# Altium integrated library National Semiconductor Amplifier.IntLib: 1665 symbols (part 14 of 44)
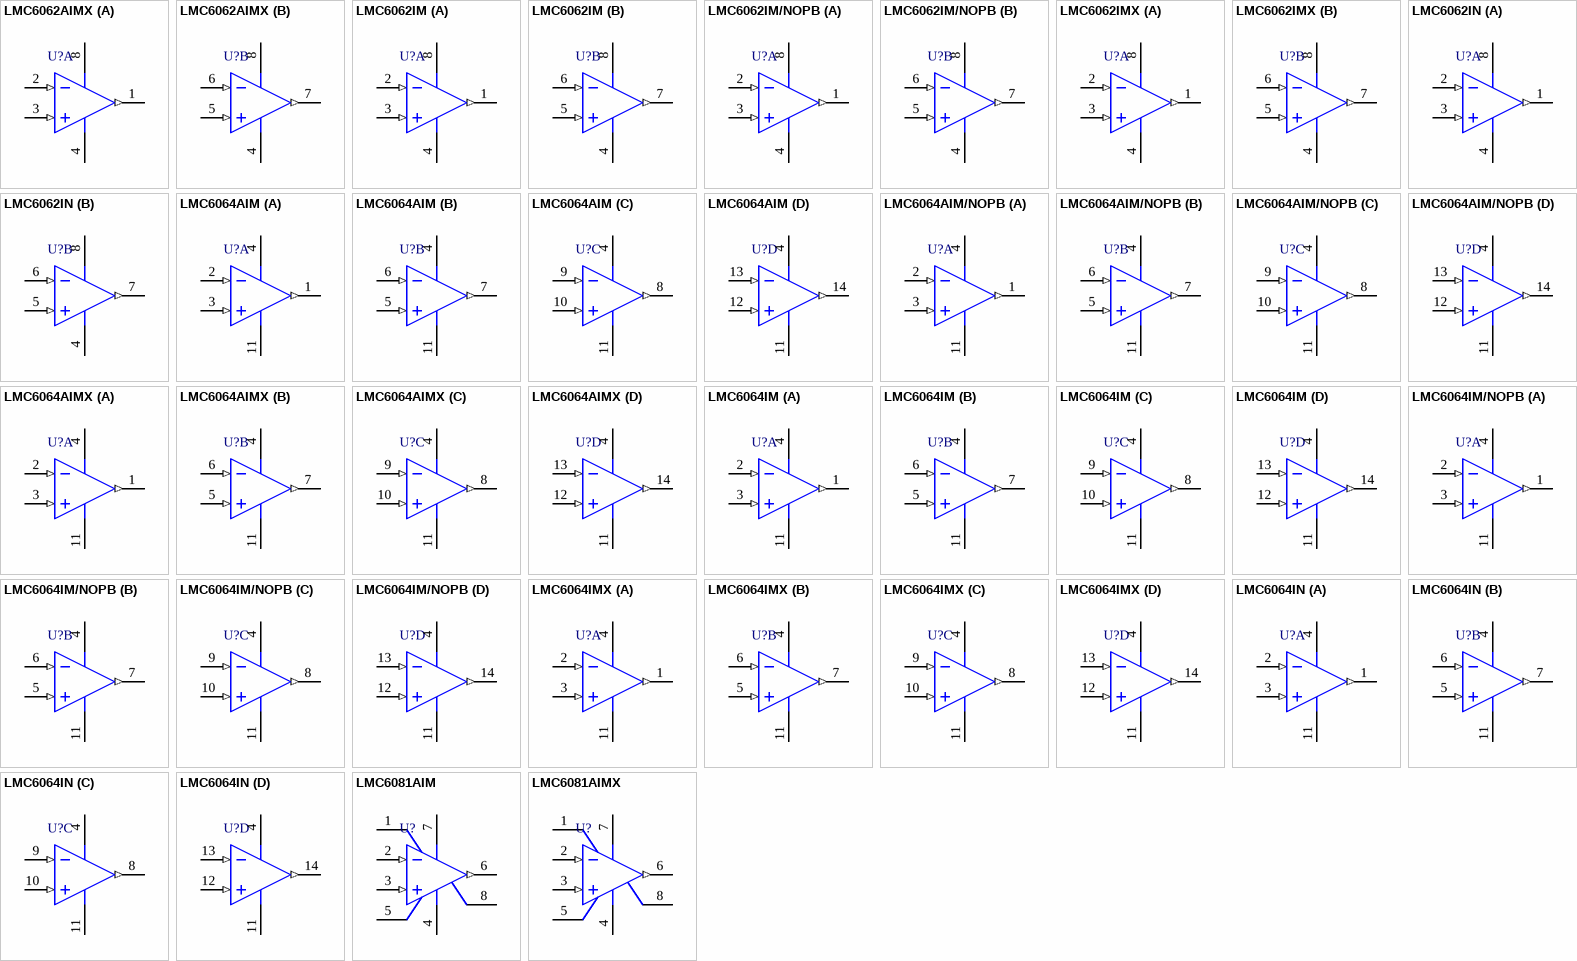
[diagram p97: symbols LMC6062AIMX to LMC6081AIMX]

## LMC6064IM
designator U?
Precision CMOS Quad Micropower Operational Amplifier, 14-pin Narrow SOIC; PartNumber: LMC6064IM; Manufacturer: National Semiconductor; PackageTopMarking: NSUZXYTTE#*LMC6064IM; PowerWise: N; CompType: Amplifiers; High-Reliability: Y; DatasheetVersion: Apr-2001; PackageVersion: revJ, Jan-1996; PackageReference: M14A; PackageDescription: Molded Package S.O., .150in Wide, 14 Lead; RoHS: N; PinCount: 14; Code_JEDEC: MS-012AB; Code_IPC: SOIC127P600-14; ComponentLink1Description: Manufacturer URL; ComponentLink1URL: http://www.national.com/; ComponentLink2Description: LMC6064 Datasheet; ComponentLink2URL: http://www.national.com/ds/LM/LMC6064.pdf; ComponentLink3Description: LMC6064 Web Page; ComponentLink3URL: http://www.national.com/pf/LM/LMC6064.html; ComponentLink4Description: M14A Package Page; ComponentLink4URL: http://www.national.com/packaging/folders/m14a.html
footprint M14A_N (SOIC, 14-Leads, Body 8.6x3.9mm, Pitch 1.27mm, IPC Medium Density)
footprint M14A_L (SOIC, 14-Leads, Body 8.6x3.9mm, Pitch 1.27mm, IPC High Density)
footprint M14A_M (SOIC, 14-Leads, Body 8.6x3.9mm, Pitch 1.27mm, IPC Low Density)
pins on every part: 4 V+ (power), 11 V- (power)
part A pins: 1 OUT1 (out), 2 IN1- (in), 3 IN1+ (in)
part B pins: 5 IN2+ (in), 6 IN2- (in), 7 OUT2 (out)
part C pins: 8 OUT3 (out), 9 IN3- (in), 10 IN3+ (in)
part D pins: 12 IN4+ (in), 13 IN4- (in), 14 OUT4 (out)

## LMC6064IM/NOPB
designator U?
Precision CMOS Quad Micropower Operational Amplifier, 14-pin Narrow SOIC, Pb-Free; PartNumber: LMC6064IM/NOPB; Manufacturer: National Semiconductor; PackageTopMarking: NSUZXYTTE#*LMC6064IM; PowerWise: N; CompType: Amplifiers; High-Reliability: Y; DatasheetVersion: Apr-2001; PackageVersion: revJ, Jan-1996; PackageReference: M14A; PackageDescription: Molded Package S.O., .150in Wide, 14 Lead; RoHS: Y; PinCount: 14; Code_JEDEC: MS-012AB; Code_IPC: SOIC127P600-14; ComponentLink1Description: Manufacturer URL; ComponentLink1URL: http://www.national.com/; ComponentLink2Description: LMC6064 Datasheet; ComponentLink2URL: http://www.national.com/ds/LM/LMC6064.pdf; ComponentLink3Description: LMC6064 Web Page; ComponentLink3URL: http://www.national.com/pf/LM/LMC6064.html; ComponentLink4Description: M14A Package Page; ComponentLink4URL: http://www.national.com/packaging/folders/m14a.html
footprint M14A_N (SOIC, 14-Leads, Body 8.6x3.9mm, Pitch 1.27mm, IPC Medium Density)
footprint M14A_L (SOIC, 14-Leads, Body 8.6x3.9mm, Pitch 1.27mm, IPC High Density)
footprint M14A_M (SOIC, 14-Leads, Body 8.6x3.9mm, Pitch 1.27mm, IPC Low Density)
pins on every part: 4 V+ (power), 11 V- (power)
part A pins: 1 OUT1 (out), 2 IN1- (in), 3 IN1+ (in)
part B pins: 5 IN2+ (in), 6 IN2- (in), 7 OUT2 (out)
part C pins: 8 OUT3 (out), 9 IN3- (in), 10 IN3+ (in)
part D pins: 12 IN4+ (in), 13 IN4- (in), 14 OUT4 (out)

## LMC6064IMX
designator U?
Precision CMOS Quad Micropower Operational Amplifier, 14-pin Narrow SOIC; PartNumber: LMC6064IMX; Manufacturer: National Semiconductor; PackageTopMarking: NSUZXYTTE#*LMC6064IM; PowerWise: N; CompType: Amplifiers; High-Reliability: Y; DatasheetVersion: Apr-2001; PackageVersion: revJ, Jan-1996; PackageReference: M14A; PackageDescription: Molded Package S.O., .150in Wide, 14 Lead; RoHS: N; PinCount: 14; Code_JEDEC: MS-012AB; Code_IPC: SOIC127P600-14; ComponentLink1Description: Manufacturer URL; ComponentLink1URL: http://www.national.com/; ComponentLink2Description: LMC6064 Datasheet; ComponentLink2URL: http://www.national.com/ds/LM/LMC6064.pdf; ComponentLink3Description: LMC6064 Web Page; ComponentLink3URL: http://www.national.com/pf/LM/LMC6064.html; ComponentLink4Description: M14A Package Page; ComponentLink4URL: http://www.national.com/packaging/folders/m14a.html
footprint M14A_N (SOIC, 14-Leads, Body 8.6x3.9mm, Pitch 1.27mm, IPC Medium Density)
footprint M14A_L (SOIC, 14-Leads, Body 8.6x3.9mm, Pitch 1.27mm, IPC High Density)
footprint M14A_M (SOIC, 14-Leads, Body 8.6x3.9mm, Pitch 1.27mm, IPC Low Density)
pins on every part: 4 V+ (power), 11 V- (power)
part A pins: 1 OUT1 (out), 2 IN1- (in), 3 IN1+ (in)
part B pins: 5 IN2+ (in), 6 IN2- (in), 7 OUT2 (out)
part C pins: 8 OUT3 (out), 9 IN3- (in), 10 IN3+ (in)
part D pins: 12 IN4+ (in), 13 IN4- (in), 14 OUT4 (out)

## LMC6064IN
designator U?
Precision CMOS Quad Micropower Operational Amplifier, 14-pin MDIP; PartNumber: LMC6064IN; Manufacturer: National Semiconductor; PackageTopMarking: NSUZXYYTTE#*LMC6064IN; PowerWise: N; CompType: Amplifiers; High-Reliability: Y; DatasheetVersion: Apr-2001; PackageVersion: revG, May-2006; PackageReference: N14A; PackageDescription: MDIP, .750 x .250 x.130in, 14 Lead, .100in Pitch; RoHS: N; PinCount: 14; Code_JEDEC: MS-001-AA; ComponentLink1Description: Manufacturer URL; ComponentLink1URL: http://www.national.com/; ComponentLink2Description: LMC6064 Datasheet; ComponentLink2URL: http://www.national.com/ds/LM/LMC6064.pdf; ComponentLink3Description: LMC6064 Web Page; ComponentLink3URL: http://www.national.com/pf/LM/LMC6064.html; ComponentLink4Description: N14A Package Page; ComponentLink4URL: http://www.national.com/packaging/folders/n14a.html
footprint N14A (DIP, 14-Leads, Row Spacing 7.62mm, Pitch 2.54mm, Body 19.56x6.35mm)
pins on every part: 4 V+ (power), 11 V- (power)
part A pins: 1 OUT1 (out), 2 IN1- (in), 3 IN1+ (in)
part B pins: 5 IN2+ (in), 6 IN2- (in), 7 OUT2 (out)
part C pins: 8 OUT3 (out), 9 IN3- (in), 10 IN3+ (in)
part D pins: 12 IN4+ (in), 13 IN4- (in), 14 OUT4 (out)

## LMC6081AIM
designator U?
Precision CMOS Single Operational Amplifier, 8-pin Narrow SOIC; PartNumber: LMC6081AIM; Manufacturer: National Semiconductor; PackageTopMarking: NSZXTT*LMC60*81AIM; PowerWise: N; CompType: Amplifiers; High-Reliability: Y; DatasheetVersion: Aug-2000; PackageVersion: revM, May-2009; PackageReference: M08A; PackageDescription: SOIC Narrow, 4.9 x 3.9 x 1.45mm, 8 Lead, 1.27mm Pitch; RoHS: N; PinCount: 8; Code_JEDEC: MS-012-AA; Code_IPC: SOIC127P600-8; ComponentLink1Description: Manufacturer URL; ComponentLink1URL: http://www.national.com/; ComponentLink2Description: LMC6081 Datasheet; ComponentLink2URL: http://www.national.com/ds/LM/LMC6081.pdf; ComponentLink3Description: LMC6081 Web Page; ComponentLink3URL: http://www.national.com/pf/LM/LMC6081.html; ComponentLink4Description: M08A Package Page; ComponentLink4URL: http://www.national.com/packaging/folders/m08a.html
footprint M08A_N (SOIC, 8-Leads, Body 4.9x3.9mm, Pitch 1.27mm, IPC Medium Density)
footprint M08A_L (SOIC, 8-Leads, Body 4.9x3.9mm, Pitch 1.27mm, IPC High Density)
footprint M08A_M (SOIC, 8-Leads, Body 4.9x3.9mm, Pitch 1.27mm, IPC Low Density)
pins: 1 NC, 2 IN- (in), 3 IN+ (in), 4 V- (power), 5 NC, 6 OUT (out), 7 V+ (power), 8 NC

## LMC6081AIMX
designator U?
Precision CMOS Single Operational Amplifier, 8-pin Narrow SOIC; PartNumber: LMC6081AIMX; Manufacturer: National Semiconductor; PackageTopMarking: NSZXTT*LMC60*81AIM; PowerWise: N; CompType: Amplifiers; High-Reliability: Y; DatasheetVersion: Aug-2000; PackageVersion: revM, May-2009; PackageReference: M08A; PackageDescription: SOIC Narrow, 4.9 x 3.9 x 1.45mm, 8 Lead, 1.27mm Pitch; RoHS: N; PinCount: 8; Code_JEDEC: MS-012-AA; Code_IPC: SOIC127P600-8; ComponentLink1Description: Manufacturer URL; ComponentLink1URL: http://www.national.com/; ComponentLink2Description: LMC6081 Datasheet; ComponentLink2URL: http://www.national.com/ds/LM/LMC6081.pdf; ComponentLink3Description: LMC6081 Web Page; ComponentLink3URL: http://www.national.com/pf/LM/LMC6081.html; ComponentLink4Description: M08A Package Page; ComponentLink4URL: http://www.national.com/packaging/folders/m08a.html
footprint M08A_N (SOIC, 8-Leads, Body 4.9x3.9mm, Pitch 1.27mm, IPC Medium Density)
footprint M08A_L (SOIC, 8-Leads, Body 4.9x3.9mm, Pitch 1.27mm, IPC High Density)
footprint M08A_M (SOIC, 8-Leads, Body 4.9x3.9mm, Pitch 1.27mm, IPC Low Density)
pins: 1 NC, 2 IN- (in), 3 IN+ (in), 4 V- (power), 5 NC, 6 OUT (out), 7 V+ (power), 8 NC

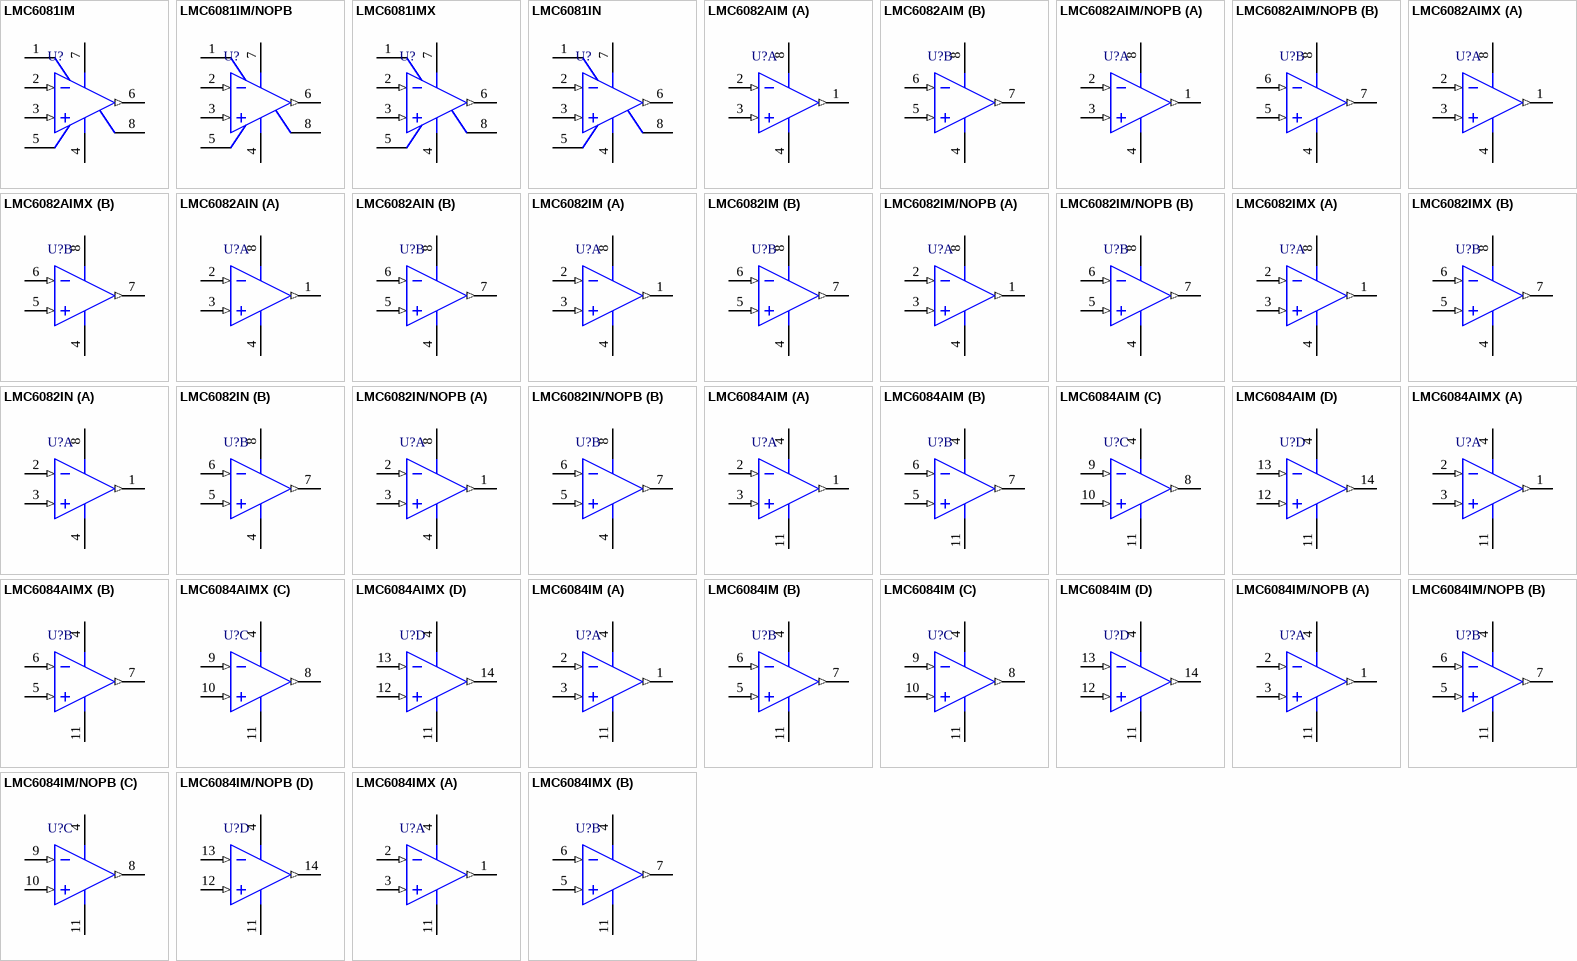
[diagram p31: symbols LMC6081IM to LMC6084IMX]

## LMC6081IM
designator U?
Precision CMOS Single Operational Amplifier, 8-pin Narrow SOIC; PartNumber: LMC6081IM; Manufacturer: National Semiconductor; PackageTopMarking: NSZXTT*LMC60*81IM; PowerWise: N; CompType: Amplifiers; High-Reliability: Y; DatasheetVersion: Aug-2000; PackageVersion: revM, May-2009; PackageReference: M08A; PackageDescription: SOIC Narrow, 4.9 x 3.9 x 1.45mm, 8 Lead, 1.27mm Pitch; RoHS: N; PinCount: 8; Code_JEDEC: MS-012-AA; Code_IPC: SOIC127P600-8; ComponentLink1Description: Manufacturer URL; ComponentLink1URL: http://www.national.com/; ComponentLink2Description: LMC6081 Datasheet; ComponentLink2URL: http://www.national.com/ds/LM/LMC6081.pdf; ComponentLink3Description: LMC6081 Web Page; ComponentLink3URL: http://www.national.com/pf/LM/LMC6081.html; ComponentLink4Description: M08A Package Page; ComponentLink4URL: http://www.national.com/packaging/folders/m08a.html
footprint M08A_N (SOIC, 8-Leads, Body 4.9x3.9mm, Pitch 1.27mm, IPC Medium Density)
footprint M08A_L (SOIC, 8-Leads, Body 4.9x3.9mm, Pitch 1.27mm, IPC High Density)
footprint M08A_M (SOIC, 8-Leads, Body 4.9x3.9mm, Pitch 1.27mm, IPC Low Density)
pins: 1 NC, 2 IN- (in), 3 IN+ (in), 4 V- (power), 5 NC, 6 OUT (out), 7 V+ (power), 8 NC

## LMC6081IM/NOPB
designator U?
Precision CMOS Single Operational Amplifier, 8-pin Narrow SOIC, Pb-Free; PartNumber: LMC6081IM/NOPB; Manufacturer: National Semiconductor; PackageTopMarking: NSZXTT*LMC60*81IM; PowerWise: N; CompType: Amplifiers; High-Reliability: Y; DatasheetVersion: Aug-2000; PackageVersion: revM, May-2009; PackageReference: M08A; PackageDescription: SOIC Narrow, 4.9 x 3.9 x 1.45mm, 8 Lead, 1.27mm Pitch; RoHS: Y; PinCount: 8; Code_JEDEC: MS-012-AA; Code_IPC: SOIC127P600-8; ComponentLink1Description: Manufacturer URL; ComponentLink1URL: http://www.national.com/; ComponentLink2Description: LMC6081 Datasheet; ComponentLink2URL: http://www.national.com/ds/LM/LMC6081.pdf; ComponentLink3Description: LMC6081 Web Page; ComponentLink3URL: http://www.national.com/pf/LM/LMC6081.html; ComponentLink4Description: M08A Package Page; ComponentLink4URL: http://www.national.com/packaging/folders/m08a.html
footprint M08A_N (SOIC, 8-Leads, Body 4.9x3.9mm, Pitch 1.27mm, IPC Medium Density)
footprint M08A_L (SOIC, 8-Leads, Body 4.9x3.9mm, Pitch 1.27mm, IPC High Density)
footprint M08A_M (SOIC, 8-Leads, Body 4.9x3.9mm, Pitch 1.27mm, IPC Low Density)
pins: 1 NC, 2 IN- (in), 3 IN+ (in), 4 V- (power), 5 NC, 6 OUT (out), 7 V+ (power), 8 NC

## LMC6081IMX
designator U?
Precision CMOS Single Operational Amplifier, 8-pin Narrow SOIC; PartNumber: LMC6081IMX; Manufacturer: National Semiconductor; PackageTopMarking: NSZXTT*LMC60*81IM; PowerWise: N; CompType: Amplifiers; High-Reliability: Y; DatasheetVersion: Aug-2000; PackageVersion: revM, May-2009; PackageReference: M08A; PackageDescription: SOIC Narrow, 4.9 x 3.9 x 1.45mm, 8 Lead, 1.27mm Pitch; RoHS: N; PinCount: 8; Code_JEDEC: MS-012-AA; Code_IPC: SOIC127P600-8; ComponentLink1Description: Manufacturer URL; ComponentLink1URL: http://www.national.com/; ComponentLink2Description: LMC6081 Datasheet; ComponentLink2URL: http://www.national.com/ds/LM/LMC6081.pdf; ComponentLink3Description: LMC6081 Web Page; ComponentLink3URL: http://www.national.com/pf/LM/LMC6081.html; ComponentLink4Description: M08A Package Page; ComponentLink4URL: http://www.national.com/packaging/folders/m08a.html
footprint M08A_N (SOIC, 8-Leads, Body 4.9x3.9mm, Pitch 1.27mm, IPC Medium Density)
footprint M08A_L (SOIC, 8-Leads, Body 4.9x3.9mm, Pitch 1.27mm, IPC High Density)
footprint M08A_M (SOIC, 8-Leads, Body 4.9x3.9mm, Pitch 1.27mm, IPC Low Density)
pins: 1 NC, 2 IN- (in), 3 IN+ (in), 4 V- (power), 5 NC, 6 OUT (out), 7 V+ (power), 8 NC

## LMC6081IN
designator U?
Precision CMOS Single Operational Amplifier, 8-pin MDIP; PartNumber: LMC6081IN; Manufacturer: National Semiconductor; PackageTopMarking: NSUZXYTTE#*LMC6081*IN; PowerWise: N; CompType: Amplifiers; High-Reliability: Y; DatasheetVersion: Aug-2000; PackageVersion: revG, May-2006; PackageReference: N08E; PackageDescription: MDIP, .365 x .250 x .130in, 8 Lead, .100in Pitch; RoHS: N; PinCount: 8; Code_JEDEC: MS-001-BA; ComponentLink1Description: Manufacturer URL; ComponentLink1URL: http://www.national.com/; ComponentLink2Description: LMC6081 Datasheet; ComponentLink2URL: http://www.national.com/ds/LM/LMC6081.pdf; ComponentLink3Description: LMC6081 Web Page; ComponentLink3URL: http://www.national.com/pf/LM/LMC6081.html; ComponentLink4Description: N08E Package Page; ComponentLink4URL: http://www.national.com/packaging/folders/n08e.html
footprint N08E (DIP, 8-Leads, Row Spacing 7.62mm, Pitch 2.54mm, Body 9.91x6.35mm)
pins: 1 NC, 2 IN- (in), 3 IN+ (in), 4 V- (power), 5 NC, 6 OUT (out), 7 V+ (power), 8 NC

## LMC6082AIM
designator U?
Precision CMOS Dual Operational Amplifier, 8-pin Narrow SOIC; PartNumber: LMC6082AIM; Manufacturer: National Semiconductor; PackageTopMarking: NSZXTT*LMC60*82AIM; PowerWise: N; CompType: Amplifiers; High-Reliability: Y; DatasheetVersion: Aug-2000; PackageVersion: revM, May-2009; PackageReference: M08A; PackageDescription: SOIC Narrow, 4.9 x 3.9 x 1.45mm, 8 Lead, 1.27mm Pitch; RoHS: N; PinCount: 8; Code_JEDEC: MS-012-AA; Code_IPC: SOIC127P600-8; ComponentLink1Description: Manufacturer URL; ComponentLink1URL: http://www.national.com/; ComponentLink2Description: LMC6082 Datasheet; ComponentLink2URL: http://www.national.com/ds/LM/LMC6082.pdf; ComponentLink3Description: LMC6082 Web Page; ComponentLink3URL: http://www.national.com/pf/LM/LMC6082.html; ComponentLink4Description: M08A Package Page; ComponentLink4URL: http://www.national.com/packaging/folders/m08a.html
footprint M08A_N (SOIC, 8-Leads, Body 4.9x3.9mm, Pitch 1.27mm, IPC Medium Density)
footprint M08A_L (SOIC, 8-Leads, Body 4.9x3.9mm, Pitch 1.27mm, IPC High Density)
footprint M08A_M (SOIC, 8-Leads, Body 4.9x3.9mm, Pitch 1.27mm, IPC Low Density)
pins on every part: 4 V- (power), 8 V+ (power)
part A pins: 1 OUTA (out), 2 INA- (in), 3 INA+ (in)
part B pins: 5 INB+ (in), 6 INB- (in), 7 OUTB (out)

## LMC6082AIM/NOPB
designator U?
Precision CMOS Dual Operational Amplifier, 8-pin Narrow SOIC, Pb-Free; PartNumber: LMC6082AIM/NOPB; Manufacturer: National Semiconductor; PackageTopMarking: NSZXTT*LMC60*82AIM; PowerWise: N; CompType: Amplifiers; High-Reliability: Y; DatasheetVersion: Aug-2000; PackageVersion: revM, May-2009; PackageReference: M08A; PackageDescription: SOIC Narrow, 4.9 x 3.9 x 1.45mm, 8 Lead, 1.27mm Pitch; RoHS: Y; PinCount: 8; Code_JEDEC: MS-012-AA; Code_IPC: SOIC127P600-8; ComponentLink1Description: Manufacturer URL; ComponentLink1URL: http://www.national.com/; ComponentLink2Description: LMC6082 Datasheet; ComponentLink2URL: http://www.national.com/ds/LM/LMC6082.pdf; ComponentLink3Description: LMC6082 Web Page; ComponentLink3URL: http://www.national.com/pf/LM/LMC6082.html; ComponentLink4Description: M08A Package Page; ComponentLink4URL: http://www.national.com/packaging/folders/m08a.html
footprint M08A_N (SOIC, 8-Leads, Body 4.9x3.9mm, Pitch 1.27mm, IPC Medium Density)
footprint M08A_L (SOIC, 8-Leads, Body 4.9x3.9mm, Pitch 1.27mm, IPC High Density)
footprint M08A_M (SOIC, 8-Leads, Body 4.9x3.9mm, Pitch 1.27mm, IPC Low Density)
pins on every part: 4 V- (power), 8 V+ (power)
part A pins: 1 OUTA (out), 2 INA- (in), 3 INA+ (in)
part B pins: 5 INB+ (in), 6 INB- (in), 7 OUTB (out)

## LMC6082AIMX
designator U?
Precision CMOS Dual Operational Amplifier, 8-pin Narrow SOIC; PartNumber: LMC6082AIMX; Manufacturer: National Semiconductor; PackageTopMarking: NSZXTT*LMC60*82AIM; PowerWise: N; CompType: Amplifiers; High-Reliability: Y; DatasheetVersion: Aug-2000; PackageVersion: revM, May-2009; PackageReference: M08A; PackageDescription: SOIC Narrow, 4.9 x 3.9 x 1.45mm, 8 Lead, 1.27mm Pitch; RoHS: N; PinCount: 8; Code_JEDEC: MS-012-AA; Code_IPC: SOIC127P600-8; ComponentLink1Description: Manufacturer URL; ComponentLink1URL: http://www.national.com/; ComponentLink2Description: LMC6082 Datasheet; ComponentLink2URL: http://www.national.com/ds/LM/LMC6082.pdf; ComponentLink3Description: LMC6082 Web Page; ComponentLink3URL: http://www.national.com/pf/LM/LMC6082.html; ComponentLink4Description: M08A Package Page; ComponentLink4URL: http://www.national.com/packaging/folders/m08a.html
footprint M08A_N (SOIC, 8-Leads, Body 4.9x3.9mm, Pitch 1.27mm, IPC Medium Density)
footprint M08A_L (SOIC, 8-Leads, Body 4.9x3.9mm, Pitch 1.27mm, IPC High Density)
footprint M08A_M (SOIC, 8-Leads, Body 4.9x3.9mm, Pitch 1.27mm, IPC Low Density)
pins on every part: 4 V- (power), 8 V+ (power)
part A pins: 1 OUTA (out), 2 INA- (in), 3 INA+ (in)
part B pins: 5 INB+ (in), 6 INB- (in), 7 OUTB (out)

## LMC6082AIN
designator U?
Precision CMOS Dual Operational Amplifier, 8-pin MDIP; PartNumber: LMC6082AIN; Manufacturer: National Semiconductor; PackageTopMarking: NSUZXYTTE#*LMC6082*AIN; PowerWise: N; CompType: Amplifiers; High-Reliability: Y; DatasheetVersion: Aug-2000; PackageVersion: revG, May-2006; PackageReference: N08E; PackageDescription: MDIP, .365 x .250 x .130in, 8 Lead, .100in Pitch; RoHS: N; PinCount: 8; Code_JEDEC: MS-001-BA; ComponentLink1Description: Manufacturer URL; ComponentLink1URL: http://www.national.com/; ComponentLink2Description: LMC6082 Datasheet; ComponentLink2URL: http://www.national.com/ds/LM/LMC6082.pdf; ComponentLink3Description: LMC6082 Web Page; ComponentLink3URL: http://www.national.com/pf/LM/LMC6082.html; ComponentLink4Description: N08E Package Page; ComponentLink4URL: http://www.national.com/packaging/folders/n08e.html
footprint N08E (DIP, 8-Leads, Row Spacing 7.62mm, Pitch 2.54mm, Body 9.91x6.35mm)
pins on every part: 4 V- (power), 8 V+ (power)
part A pins: 1 OUTA (out), 2 INA- (in), 3 INA+ (in)
part B pins: 5 INB+ (in), 6 INB- (in), 7 OUTB (out)

## LMC6082IM
designator U?
Precision CMOS Dual Operational Amplifier, 8-pin Narrow SOIC; PartNumber: LMC6082IM; Manufacturer: National Semiconductor; PackageTopMarking: NSZXTT*LMC60*82IM; PowerWise: N; CompType: Amplifiers; High-Reliability: Y; DatasheetVersion: Aug-2000; PackageVersion: revM, May-2009; PackageReference: M08A; PackageDescription: SOIC Narrow, 4.9 x 3.9 x 1.45mm, 8 Lead, 1.27mm Pitch; RoHS: N; PinCount: 8; Code_JEDEC: MS-012-AA; Code_IPC: SOIC127P600-8; ComponentLink1Description: Manufacturer URL; ComponentLink1URL: http://www.national.com/; ComponentLink2Description: LMC6082 Datasheet; ComponentLink2URL: http://www.national.com/ds/LM/LMC6082.pdf; ComponentLink3Description: LMC6082 Web Page; ComponentLink3URL: http://www.national.com/pf/LM/LMC6082.html; ComponentLink4Description: M08A Package Page; ComponentLink4URL: http://www.national.com/packaging/folders/m08a.html
footprint M08A_N (SOIC, 8-Leads, Body 4.9x3.9mm, Pitch 1.27mm, IPC Medium Density)
footprint M08A_L (SOIC, 8-Leads, Body 4.9x3.9mm, Pitch 1.27mm, IPC High Density)
footprint M08A_M (SOIC, 8-Leads, Body 4.9x3.9mm, Pitch 1.27mm, IPC Low Density)
pins on every part: 4 V- (power), 8 V+ (power)
part A pins: 1 OUTA (out), 2 INA- (in), 3 INA+ (in)
part B pins: 5 INB+ (in), 6 INB- (in), 7 OUTB (out)

## LMC6082IM/NOPB
designator U?
Precision CMOS Dual Operational Amplifier, 8-pin Narrow SOIC, Pb-Free; PartNumber: LMC6082IM/NOPB; Manufacturer: National Semiconductor; PackageTopMarking: NSZXTT*LMC60*82IM; PowerWise: N; CompType: Amplifiers; High-Reliability: Y; DatasheetVersion: Aug-2000; PackageVersion: revM, May-2009; PackageReference: M08A; PackageDescription: SOIC Narrow, 4.9 x 3.9 x 1.45mm, 8 Lead, 1.27mm Pitch; RoHS: Y; PinCount: 8; Code_JEDEC: MS-012-AA; Code_IPC: SOIC127P600-8; ComponentLink1Description: Manufacturer URL; ComponentLink1URL: http://www.national.com/; ComponentLink2Description: LMC6082 Datasheet; ComponentLink2URL: http://www.national.com/ds/LM/LMC6082.pdf; ComponentLink3Description: LMC6082 Web Page; ComponentLink3URL: http://www.national.com/pf/LM/LMC6082.html; ComponentLink4Description: M08A Package Page; ComponentLink4URL: http://www.national.com/packaging/folders/m08a.html
footprint M08A_N (SOIC, 8-Leads, Body 4.9x3.9mm, Pitch 1.27mm, IPC Medium Density)
footprint M08A_L (SOIC, 8-Leads, Body 4.9x3.9mm, Pitch 1.27mm, IPC High Density)
footprint M08A_M (SOIC, 8-Leads, Body 4.9x3.9mm, Pitch 1.27mm, IPC Low Density)
pins on every part: 4 V- (power), 8 V+ (power)
part A pins: 1 OUTA (out), 2 INA- (in), 3 INA+ (in)
part B pins: 5 INB+ (in), 6 INB- (in), 7 OUTB (out)

## LMC6082IMX
designator U?
Precision CMOS Dual Operational Amplifier, 8-pin Narrow SOIC; PartNumber: LMC6082IMX; Manufacturer: National Semiconductor; PackageTopMarking: NSZXTT*LMC60*82IM; PowerWise: N; CompType: Amplifiers; High-Reliability: Y; DatasheetVersion: Aug-2000; PackageVersion: revM, May-2009; PackageReference: M08A; PackageDescription: SOIC Narrow, 4.9 x 3.9 x 1.45mm, 8 Lead, 1.27mm Pitch; RoHS: N; PinCount: 8; Code_JEDEC: MS-012-AA; Code_IPC: SOIC127P600-8; ComponentLink1Description: Manufacturer URL; ComponentLink1URL: http://www.national.com/; ComponentLink2Description: LMC6082 Datasheet; ComponentLink2URL: http://www.national.com/ds/LM/LMC6082.pdf; ComponentLink3Description: LMC6082 Web Page; ComponentLink3URL: http://www.national.com/pf/LM/LMC6082.html; ComponentLink4Description: M08A Package Page; ComponentLink4URL: http://www.national.com/packaging/folders/m08a.html
footprint M08A_N (SOIC, 8-Leads, Body 4.9x3.9mm, Pitch 1.27mm, IPC Medium Density)
footprint M08A_L (SOIC, 8-Leads, Body 4.9x3.9mm, Pitch 1.27mm, IPC High Density)
footprint M08A_M (SOIC, 8-Leads, Body 4.9x3.9mm, Pitch 1.27mm, IPC Low Density)
pins on every part: 4 V- (power), 8 V+ (power)
part A pins: 1 OUTA (out), 2 INA- (in), 3 INA+ (in)
part B pins: 5 INB+ (in), 6 INB- (in), 7 OUTB (out)

## LMC6082IN
designator U?
Precision CMOS Dual Operational Amplifier, 8-pin MDIP; PartNumber: LMC6082IN; Manufacturer: National Semiconductor; PackageTopMarking: NSUZXYTTE#*LMC6082*IN; PowerWise: N; CompType: Amplifiers; High-Reliability: Y; DatasheetVersion: Aug-2000; PackageVersion: revG, May-2006; PackageReference: N08E; PackageDescription: MDIP, .365 x .250 x .130in, 8 Lead, .100in Pitch; RoHS: N; PinCount: 8; Code_JEDEC: MS-001-BA; ComponentLink1Description: Manufacturer URL; ComponentLink1URL: http://www.national.com/; ComponentLink2Description: LMC6082 Datasheet; ComponentLink2URL: http://www.national.com/ds/LM/LMC6082.pdf; ComponentLink3Description: LMC6082 Web Page; ComponentLink3URL: http://www.national.com/pf/LM/LMC6082.html; ComponentLink4Description: N08E Package Page; ComponentLink4URL: http://www.national.com/packaging/folders/n08e.html
footprint N08E (DIP, 8-Leads, Row Spacing 7.62mm, Pitch 2.54mm, Body 9.91x6.35mm)
pins on every part: 4 V- (power), 8 V+ (power)
part A pins: 1 OUTA (out), 2 INA- (in), 3 INA+ (in)
part B pins: 5 INB+ (in), 6 INB- (in), 7 OUTB (out)

## LMC6082IN/NOPB
designator U?
Precision CMOS Dual Operational Amplifier, 8-pin MDIP, Pb-Free; PartNumber: LMC6082IN/NOPB; Manufacturer: National Semiconductor; PackageTopMarking: NSUZXYTTE#*LMC6082*IN; PowerWise: N; CompType: Amplifiers; High-Reliability: Y; DatasheetVersion: Aug-2000; PackageVersion: revG, May-2006; PackageReference: N08E; PackageDescription: MDIP, .365 x .250 x .130in, 8 Lead, .100in Pitch; RoHS: Y; PinCount: 8; Code_JEDEC: MS-001-BA; ComponentLink1Description: Manufacturer URL; ComponentLink1URL: http://www.national.com/; ComponentLink2Description: LMC6082 Datasheet; ComponentLink2URL: http://www.national.com/ds/LM/LMC6082.pdf; ComponentLink3Description: LMC6082 Web Page; ComponentLink3URL: http://www.national.com/pf/LM/LMC6082.html; ComponentLink4Description: N08E Package Page; ComponentLink4URL: http://www.national.com/packaging/folders/n08e.html
footprint N08E (DIP, 8-Leads, Row Spacing 7.62mm, Pitch 2.54mm, Body 9.91x6.35mm)
pins on every part: 4 V- (power), 8 V+ (power)
part A pins: 1 OUTA (out), 2 INA- (in), 3 INA+ (in)
part B pins: 5 INB+ (in), 6 INB- (in), 7 OUTB (out)

## LMC6084AIM
designator U?
Precision CMOS Quad Operational Amplifier, 14-pin Narrow SOIC; PartNumber: LMC6084AIM; Manufacturer: National Semiconductor; PackageTopMarking: NSUZXYTTE#*LMC6084*AIM; PowerWise: N; CompType: Amplifiers; High-Reliability: Y; DatasheetVersion: Aug-2000; PackageVersion: revJ, Jan-1996; PackageReference: M14A; PackageDescription: Molded Package S.O., .150in Wide, 14 Lead; RoHS: N; PinCount: 14; Code_JEDEC: MS-012AB; Code_IPC: SOIC127P600-14; ComponentLink1Description: Manufacturer URL; ComponentLink1URL: http://www.national.com/; ComponentLink2Description: LMC6084 Datasheet; ComponentLink2URL: http://www.national.com/ds/LM/LMC6084.pdf; ComponentLink3Description: LMC6084 Web Page; ComponentLink3URL: http://www.national.com/pf/LM/LMC6084.html; ComponentLink4Description: M14A Package Page; ComponentLink4URL: http://www.national.com/packaging/folders/m14a.html
footprint M14A_N (SOIC, 14-Leads, Body 8.6x3.9mm, Pitch 1.27mm, IPC Medium Density)
footprint M14A_L (SOIC, 14-Leads, Body 8.6x3.9mm, Pitch 1.27mm, IPC High Density)
footprint M14A_M (SOIC, 14-Leads, Body 8.6x3.9mm, Pitch 1.27mm, IPC Low Density)
pins on every part: 4 V+ (power), 11 V- (power)
part A pins: 1 OUT1 (out), 2 IN1- (in), 3 IN1+ (in)
part B pins: 5 IN2+ (in), 6 IN2- (in), 7 OUT2 (out)
part C pins: 8 OUT3 (out), 9 IN3- (in), 10 IN3+ (in)
part D pins: 12 IN4+ (in), 13 IN4- (in), 14 OUT4 (out)

## LMC6084AIMX
designator U?
Precision CMOS Quad Operational Amplifier, 14-pin Narrow SOIC; PartNumber: LMC6084AIMX; Manufacturer: National Semiconductor; PackageTopMarking: NSUZXYTTE#*LMC6084*AIM; PowerWise: N; CompType: Amplifiers; High-Reliability: Y; DatasheetVersion: Aug-2000; PackageVersion: revJ, Jan-1996; PackageReference: M14A; PackageDescription: Molded Package S.O., .150in Wide, 14 Lead; RoHS: N; PinCount: 14; Code_JEDEC: MS-012AB; Code_IPC: SOIC127P600-14; ComponentLink1Description: Manufacturer URL; ComponentLink1URL: http://www.national.com/; ComponentLink2Description: LMC6084 Datasheet; ComponentLink2URL: http://www.national.com/ds/LM/LMC6084.pdf; ComponentLink3Description: LMC6084 Web Page; ComponentLink3URL: http://www.national.com/pf/LM/LMC6084.html; ComponentLink4Description: M14A Package Page; ComponentLink4URL: http://www.national.com/packaging/folders/m14a.html
footprint M14A_N (SOIC, 14-Leads, Body 8.6x3.9mm, Pitch 1.27mm, IPC Medium Density)
footprint M14A_L (SOIC, 14-Leads, Body 8.6x3.9mm, Pitch 1.27mm, IPC High Density)
footprint M14A_M (SOIC, 14-Leads, Body 8.6x3.9mm, Pitch 1.27mm, IPC Low Density)
pins on every part: 4 V+ (power), 11 V- (power)
part A pins: 1 OUT1 (out), 2 IN1- (in), 3 IN1+ (in)
part B pins: 5 IN2+ (in), 6 IN2- (in), 7 OUT2 (out)
part C pins: 8 OUT3 (out), 9 IN3- (in), 10 IN3+ (in)
part D pins: 12 IN4+ (in), 13 IN4- (in), 14 OUT4 (out)

## LMC6084IM
designator U?
Precision CMOS Quad Operational Amplifier, 14-pin Narrow SOIC; PartNumber: LMC6084IM; Manufacturer: National Semiconductor; PackageTopMarking: NSUZXYTTE#*LMC6084IM; PowerWise: N; CompType: Amplifiers; High-Reliability: Y; DatasheetVersion: Aug-2000; PackageVersion: revJ, Jan-1996; PackageReference: M14A; PackageDescription: Molded Package S.O., .150in Wide, 14 Lead; RoHS: N; PinCount: 14; Code_JEDEC: MS-012AB; Code_IPC: SOIC127P600-14; ComponentLink1Description: Manufacturer URL; ComponentLink1URL: http://www.national.com/; ComponentLink2Description: LMC6084 Datasheet; ComponentLink2URL: http://www.national.com/ds/LM/LMC6084.pdf; ComponentLink3Description: LMC6084 Web Page; ComponentLink3URL: http://www.national.com/pf/LM/LMC6084.html; ComponentLink4Description: M14A Package Page; ComponentLink4URL: http://www.national.com/packaging/folders/m14a.html
footprint M14A_N (SOIC, 14-Leads, Body 8.6x3.9mm, Pitch 1.27mm, IPC Medium Density)
footprint M14A_L (SOIC, 14-Leads, Body 8.6x3.9mm, Pitch 1.27mm, IPC High Density)
footprint M14A_M (SOIC, 14-Leads, Body 8.6x3.9mm, Pitch 1.27mm, IPC Low Density)
pins on every part: 4 V+ (power), 11 V- (power)
part A pins: 1 OUT1 (out), 2 IN1- (in), 3 IN1+ (in)
part B pins: 5 IN2+ (in), 6 IN2- (in), 7 OUT2 (out)
part C pins: 8 OUT3 (out), 9 IN3- (in), 10 IN3+ (in)
part D pins: 12 IN4+ (in), 13 IN4- (in), 14 OUT4 (out)

## LMC6084IM/NOPB
designator U?
Precision CMOS Quad Operational Amplifier, 14-pin Narrow SOIC, Pb-Free; PartNumber: LMC6084IM/NOPB; Manufacturer: National Semiconductor; PackageTopMarking: NSUZXYTTE#*LMC6084IM; PowerWise: N; CompType: Amplifiers; High-Reliability: Y; DatasheetVersion: Aug-2000; PackageVersion: revJ, Jan-1996; PackageReference: M14A; PackageDescription: Molded Package S.O., .150in Wide, 14 Lead; RoHS: Y; PinCount: 14; Code_JEDEC: MS-012AB; Code_IPC: SOIC127P600-14; ComponentLink1Description: Manufacturer URL; ComponentLink1URL: http://www.national.com/; ComponentLink2Description: LMC6084 Datasheet; ComponentLink2URL: http://www.national.com/ds/LM/LMC6084.pdf; ComponentLink3Description: LMC6084 Web Page; ComponentLink3URL: http://www.national.com/pf/LM/LMC6084.html; ComponentLink4Description: M14A Package Page; ComponentLink4URL: http://www.national.com/packaging/folders/m14a.html
footprint M14A_N (SOIC, 14-Leads, Body 8.6x3.9mm, Pitch 1.27mm, IPC Medium Density)
footprint M14A_L (SOIC, 14-Leads, Body 8.6x3.9mm, Pitch 1.27mm, IPC High Density)
footprint M14A_M (SOIC, 14-Leads, Body 8.6x3.9mm, Pitch 1.27mm, IPC Low Density)
pins on every part: 4 V+ (power), 11 V- (power)
part A pins: 1 OUT1 (out), 2 IN1- (in), 3 IN1+ (in)
part B pins: 5 IN2+ (in), 6 IN2- (in), 7 OUT2 (out)
part C pins: 8 OUT3 (out), 9 IN3- (in), 10 IN3+ (in)
part D pins: 12 IN4+ (in), 13 IN4- (in), 14 OUT4 (out)

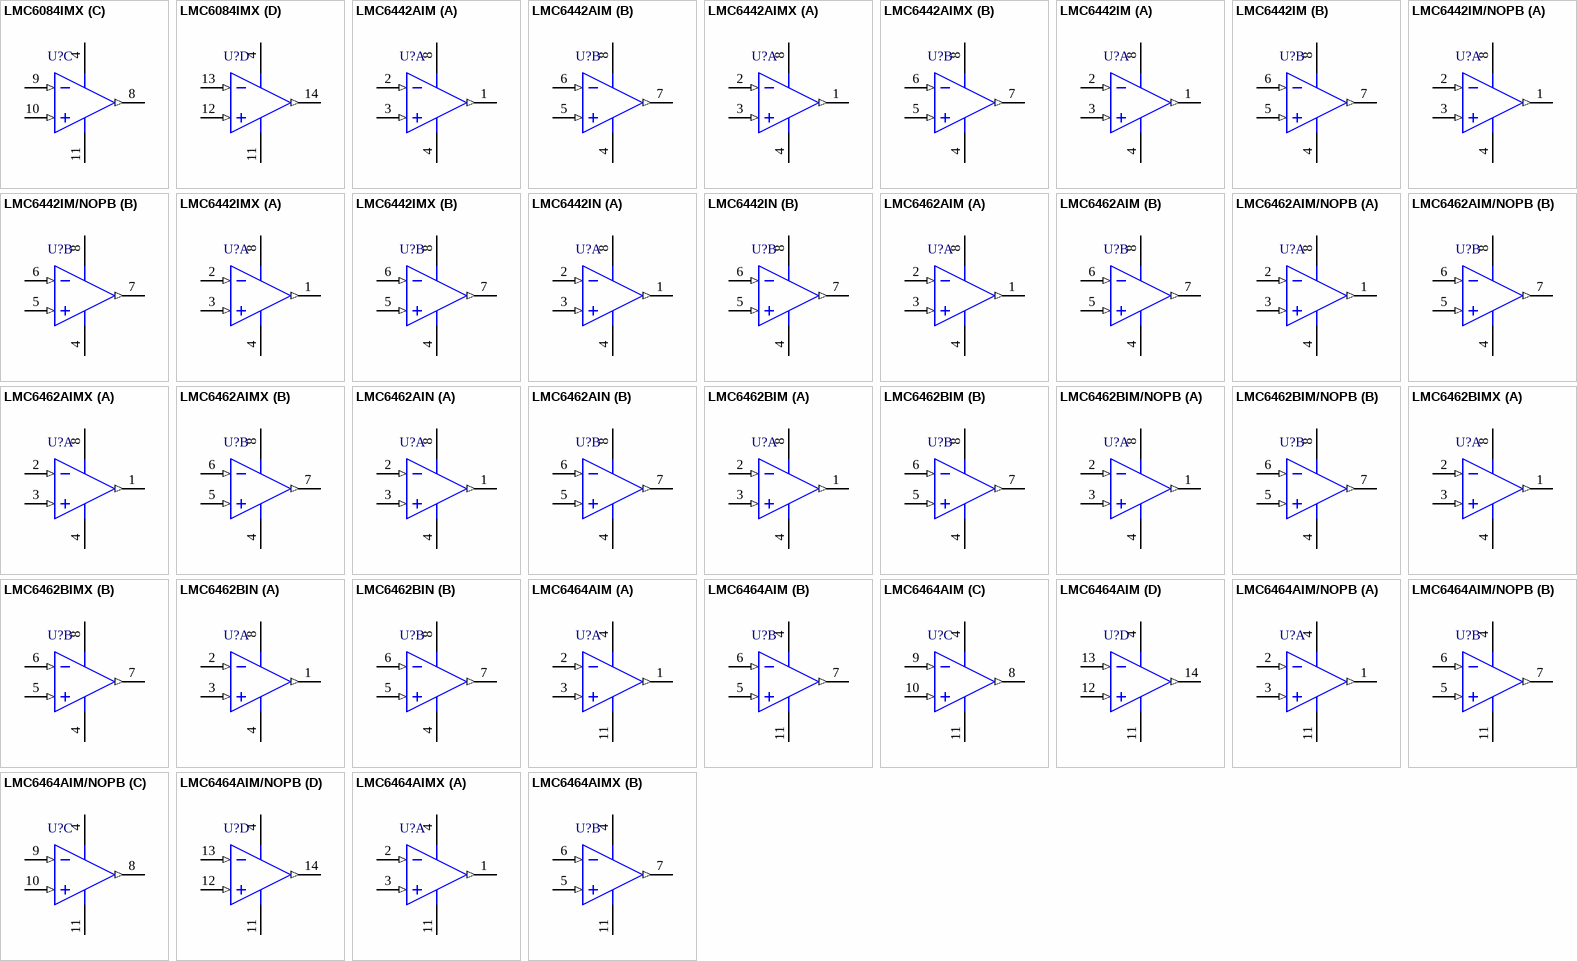
[diagram p32: symbols LMC6084IMX to LMC6464AIMX]

## LMC6084IMX
designator U?
Precision CMOS Quad Operational Amplifier, 14-pin Narrow SOIC; PartNumber: LMC6084IMX; Manufacturer: National Semiconductor; PackageTopMarking: NSUZXYTTE#*LMC6084IM; PowerWise: N; CompType: Amplifiers; High-Reliability: Y; DatasheetVersion: Aug-2000; PackageVersion: revJ, Jan-1996; PackageReference: M14A; PackageDescription: Molded Package S.O., .150in Wide, 14 Lead; RoHS: N; PinCount: 14; Code_JEDEC: MS-012AB; Code_IPC: SOIC127P600-14; ComponentLink1Description: Manufacturer URL; ComponentLink1URL: http://www.national.com/; ComponentLink2Description: LMC6084 Datasheet; ComponentLink2URL: http://www.national.com/ds/LM/LMC6084.pdf; ComponentLink3Description: LMC6084 Web Page; ComponentLink3URL: http://www.national.com/pf/LM/LMC6084.html; ComponentLink4Description: M14A Package Page; ComponentLink4URL: http://www.national.com/packaging/folders/m14a.html
footprint M14A_N (SOIC, 14-Leads, Body 8.6x3.9mm, Pitch 1.27mm, IPC Medium Density)
footprint M14A_L (SOIC, 14-Leads, Body 8.6x3.9mm, Pitch 1.27mm, IPC High Density)
footprint M14A_M (SOIC, 14-Leads, Body 8.6x3.9mm, Pitch 1.27mm, IPC Low Density)
pins on every part: 4 V+ (power), 11 V- (power)
part A pins: 1 OUT1 (out), 2 IN1- (in), 3 IN1+ (in)
part B pins: 5 IN2+ (in), 6 IN2- (in), 7 OUT2 (out)
part C pins: 8 OUT3 (out), 9 IN3- (in), 10 IN3+ (in)
part D pins: 12 IN4+ (in), 13 IN4- (in), 14 OUT4 (out)

## LMC6442AIM
designator U?
Dual Micropower Rail-to-Rail Output Single Supply Operational Amplifier, 8-pin Narrow SOIC; PartNumber: LMC6442AIM; Manufacturer: National Semiconductor; PackageTopMarking: NSZXTT*LMC64*42AIM; PowerWise: Y; CompType: Amplifiers; DatasheetVersion: Mar-2005; PackageVersion: revM, May-2009; PackageReference: M08A; PackageDescription: SOIC Narrow, 4.9 x 3.9 x 1.45mm, 8 Lead, 1.27mm Pitch; RoHS: N; PinCount: 8; High-Reliability: Y; Code_JEDEC: MS-012-AA; Code_IPC: SOIC127P600-8; ComponentLink1Description: Manufacturer URL; ComponentLink1URL: http://www.national.com/; ComponentLink2Description: LMC6442 Datasheet; ComponentLink2URL: http://www.national.com/ds/LM/LMC6442.pdf; ComponentLink3Description: LMC6442 Web Page; ComponentLink3URL: http://www.national.com/pf/LM/LMC6442.html; ComponentLink4Description: M08A Package Page; ComponentLink4URL: http://www.national.com/packaging/folders/m08a.html
footprint M08A_N (SOIC, 8-Leads, Body 4.9x3.9mm, Pitch 1.27mm, IPC Medium Density)
footprint M08A_L (SOIC, 8-Leads, Body 4.9x3.9mm, Pitch 1.27mm, IPC High Density)
footprint M08A_M (SOIC, 8-Leads, Body 4.9x3.9mm, Pitch 1.27mm, IPC Low Density)
pins on every part: 4 V- (power), 8 V+ (power)
part A pins: 1 OUTA (out), 2 INA- (in), 3 INA+ (in)
part B pins: 5 INB+ (in), 6 INB- (in), 7 OUTB (out)

## LMC6442AIMX
designator U?
Dual Micropower Rail-to-Rail Output Single Supply Operational Amplifier, 8-pin Narrow SOIC; PartNumber: LMC6442AIMX; Manufacturer: National Semiconductor; PackageTopMarking: NSZXTT*LMC64*42AIM; PowerWise: Y; CompType: Amplifiers; DatasheetVersion: Mar-2005; PackageVersion: revM, May-2009; PackageReference: M08A; PackageDescription: SOIC Narrow, 4.9 x 3.9 x 1.45mm, 8 Lead, 1.27mm Pitch; RoHS: N; PinCount: 8; High-Reliability: Y; Code_JEDEC: MS-012-AA; Code_IPC: SOIC127P600-8; ComponentLink1Description: Manufacturer URL; ComponentLink1URL: http://www.national.com/; ComponentLink2Description: LMC6442 Datasheet; ComponentLink2URL: http://www.national.com/ds/LM/LMC6442.pdf; ComponentLink3Description: LMC6442 Web Page; ComponentLink3URL: http://www.national.com/pf/LM/LMC6442.html; ComponentLink4Description: M08A Package Page; ComponentLink4URL: http://www.national.com/packaging/folders/m08a.html
footprint M08A_N (SOIC, 8-Leads, Body 4.9x3.9mm, Pitch 1.27mm, IPC Medium Density)
footprint M08A_L (SOIC, 8-Leads, Body 4.9x3.9mm, Pitch 1.27mm, IPC High Density)
footprint M08A_M (SOIC, 8-Leads, Body 4.9x3.9mm, Pitch 1.27mm, IPC Low Density)
pins on every part: 4 V- (power), 8 V+ (power)
part A pins: 1 OUTA (out), 2 INA- (in), 3 INA+ (in)
part B pins: 5 INB+ (in), 6 INB- (in), 7 OUTB (out)

## LMC6442IM
designator U?
Dual Micropower Rail-to-Rail Output Single Supply Operational Amplifier, 8-pin Narrow SOIC; PartNumber: LMC6442IM; Manufacturer: National Semiconductor; PackageTopMarking: NSZXTT*LMC64*42IM; PowerWise: Y; CompType: Amplifiers; DatasheetVersion: Mar-2005; PackageVersion: revM, May-2009; PackageReference: M08A; PackageDescription: SOIC Narrow, 4.9 x 3.9 x 1.45mm, 8 Lead, 1.27mm Pitch; RoHS: N; PinCount: 8; High-Reliability: Y; Code_JEDEC: MS-012-AA; Code_IPC: SOIC127P600-8; ComponentLink1Description: Manufacturer URL; ComponentLink1URL: http://www.national.com/; ComponentLink2Description: LMC6442 Datasheet; ComponentLink2URL: http://www.national.com/ds/LM/LMC6442.pdf; ComponentLink3Description: LMC6442 Web Page; ComponentLink3URL: http://www.national.com/pf/LM/LMC6442.html; ComponentLink4Description: M08A Package Page; ComponentLink4URL: http://www.national.com/packaging/folders/m08a.html
footprint M08A_N (SOIC, 8-Leads, Body 4.9x3.9mm, Pitch 1.27mm, IPC Medium Density)
footprint M08A_L (SOIC, 8-Leads, Body 4.9x3.9mm, Pitch 1.27mm, IPC High Density)
footprint M08A_M (SOIC, 8-Leads, Body 4.9x3.9mm, Pitch 1.27mm, IPC Low Density)
pins on every part: 4 V- (power), 8 V+ (power)
part A pins: 1 OUTA (out), 2 INA- (in), 3 INA+ (in)
part B pins: 5 INB+ (in), 6 INB- (in), 7 OUTB (out)

## LMC6442IM/NOPB
designator U?
Dual Micropower Rail-to-Rail Output Single Supply Operational Amplifier, 8-pin Narrow SOIC, Pb-Free; PartNumber: LMC6442IM/NOPB; Manufacturer: National Semiconductor; PackageTopMarking: NSZXTT*LMC64*42IM; PowerWise: Y; CompType: Amplifiers; DatasheetVersion: Mar-2005; PackageVersion: revM, May-2009; PackageReference: M08A; PackageDescription: SOIC Narrow, 4.9 x 3.9 x 1.45mm, 8 Lead, 1.27mm Pitch; RoHS: Y; PinCount: 8; High-Reliability: Y; Code_JEDEC: MS-012-AA; Code_IPC: SOIC127P600-8; ComponentLink1Description: Manufacturer URL; ComponentLink1URL: http://www.national.com/; ComponentLink2Description: LMC6442 Datasheet; ComponentLink2URL: http://www.national.com/ds/LM/LMC6442.pdf; ComponentLink3Description: LMC6442 Web Page; ComponentLink3URL: http://www.national.com/pf/LM/LMC6442.html; ComponentLink4Description: M08A Package Page; ComponentLink4URL: http://www.national.com/packaging/folders/m08a.html
footprint M08A_N (SOIC, 8-Leads, Body 4.9x3.9mm, Pitch 1.27mm, IPC Medium Density)
footprint M08A_L (SOIC, 8-Leads, Body 4.9x3.9mm, Pitch 1.27mm, IPC High Density)
footprint M08A_M (SOIC, 8-Leads, Body 4.9x3.9mm, Pitch 1.27mm, IPC Low Density)
pins on every part: 4 V- (power), 8 V+ (power)
part A pins: 1 OUTA (out), 2 INA- (in), 3 INA+ (in)
part B pins: 5 INB+ (in), 6 INB- (in), 7 OUTB (out)

## LMC6442IMX
designator U?
Dual Micropower Rail-to-Rail Output Single Supply Operational Amplifier, 8-pin Narrow SOIC; PartNumber: LMC6442IMX; Manufacturer: National Semiconductor; PackageTopMarking: NSZXTT*LMC64*42IM; PowerWise: Y; CompType: Amplifiers; DatasheetVersion: Mar-2005; PackageVersion: revM, May-2009; PackageReference: M08A; PackageDescription: SOIC Narrow, 4.9 x 3.9 x 1.45mm, 8 Lead, 1.27mm Pitch; RoHS: N; PinCount: 8; High-Reliability: Y; Code_JEDEC: MS-012-AA; Code_IPC: SOIC127P600-8; ComponentLink1Description: Manufacturer URL; ComponentLink1URL: http://www.national.com/; ComponentLink2Description: LMC6442 Datasheet; ComponentLink2URL: http://www.national.com/ds/LM/LMC6442.pdf; ComponentLink3Description: LMC6442 Web Page; ComponentLink3URL: http://www.national.com/pf/LM/LMC6442.html; ComponentLink4Description: M08A Package Page; ComponentLink4URL: http://www.national.com/packaging/folders/m08a.html
footprint M08A_N (SOIC, 8-Leads, Body 4.9x3.9mm, Pitch 1.27mm, IPC Medium Density)
footprint M08A_L (SOIC, 8-Leads, Body 4.9x3.9mm, Pitch 1.27mm, IPC High Density)
footprint M08A_M (SOIC, 8-Leads, Body 4.9x3.9mm, Pitch 1.27mm, IPC Low Density)
pins on every part: 4 V- (power), 8 V+ (power)
part A pins: 1 OUTA (out), 2 INA- (in), 3 INA+ (in)
part B pins: 5 INB+ (in), 6 INB- (in), 7 OUTB (out)

## LMC6442IN
designator U?
Dual Micropower Rail-to-Rail Output Single Supply Operational Amplifier, 8-pin MDIP; PartNumber: LMC6442IN; Manufacturer: National Semiconductor; PackageTopMarking: NSUZXYTTE#*LMC6442*IN; PowerWise: Y; CompType: Amplifiers; DatasheetVersion: Mar-2005; PackageVersion: revG, May-2006; PackageReference: N08E; PackageDescription: MDIP, .365 x .250 x .130in, 8 Lead, .100in Pitch; RoHS: N; PinCount: 8; High-Reliability: Y; Code_JEDEC: MS-001-BA; ComponentLink1Description: Manufacturer URL; ComponentLink1URL: http://www.national.com/; ComponentLink2Description: LMC6442 Datasheet; ComponentLink2URL: http://www.national.com/ds/LM/LMC6442.pdf; ComponentLink3Description: LMC6442 Web Page; ComponentLink3URL: http://www.national.com/pf/LM/LMC6442.html; ComponentLink4Description: N08E Package Page; ComponentLink4URL: http://www.national.com/packaging/folders/n08e.html
footprint N08E (DIP, 8-Leads, Row Spacing 7.62mm, Pitch 2.54mm, Body 9.91x6.35mm)
pins on every part: 4 V- (power), 8 V+ (power)
part A pins: 1 OUTA (out), 2 INA- (in), 3 INA+ (in)
part B pins: 5 INB+ (in), 6 INB- (in), 7 OUTB (out)

## LMC6462AIM
designator U?
Dual Micropower, Rail-to-Rail Input and Output CMOS Operational Amplifier, 8-pin Narrow SOIC; PartNumber: LMC6462AIM; Manufacturer: National Semiconductor; PackageTopMarking: NSZXTT*LMC64*62AIM; PowerWise: N; CompType: Amplifiers; High-Reliability: Y; DatasheetVersion: Feb-2004; PackageVersion: revM, May-2009; PackageReference: M08A; PackageDescription: SOIC Narrow, 4.9 x 3.9 x 1.45mm, 8 Lead, 1.27mm Pitch; RoHS: N; PinCount: 8; Code_JEDEC: MS-012-AA; Code_IPC: SOIC127P600-8; ComponentLink1Description: Manufacturer URL; ComponentLink1URL: http://www.national.com/; ComponentLink2Description: LMC6462 Datasheet; ComponentLink2URL: http://www.national.com/ds/LM/LMC6462.pdf; ComponentLink3Description: LMC6462 Web Page; ComponentLink3URL: http://www.national.com/pf/LM/LMC6462.html; ComponentLink4Description: M08A Package Page; ComponentLink4URL: http://www.national.com/packaging/folders/m08a.html
footprint M08A_N (SOIC, 8-Leads, Body 4.9x3.9mm, Pitch 1.27mm, IPC Medium Density)
footprint M08A_L (SOIC, 8-Leads, Body 4.9x3.9mm, Pitch 1.27mm, IPC High Density)
footprint M08A_M (SOIC, 8-Leads, Body 4.9x3.9mm, Pitch 1.27mm, IPC Low Density)
pins on every part: 4 V- (power), 8 V+ (power)
part A pins: 1 OUTA (out), 2 INA- (in), 3 INA+ (in)
part B pins: 5 INB+ (in), 6 INB- (in), 7 OUTB (out)

## LMC6462AIM/NOPB
designator U?
Dual Micropower, Rail-to-Rail Input and Output CMOS Operational Amplifier, 8-pin Narrow SOIC, Pb-Free; PartNumber: LMC6462AIM/NOPB; Manufacturer: National Semiconductor; PackageTopMarking: NSZXTT*LMC64*62AIM; PowerWise: N; CompType: Amplifiers; High-Reliability: Y; DatasheetVersion: Feb-2004; PackageVersion: revM, May-2009; PackageReference: M08A; PackageDescription: SOIC Narrow, 4.9 x 3.9 x 1.45mm, 8 Lead, 1.27mm Pitch; RoHS: Y; PinCount: 8; Code_JEDEC: MS-012-AA; Code_IPC: SOIC127P600-8; ComponentLink1Description: Manufacturer URL; ComponentLink1URL: http://www.national.com/; ComponentLink2Description: LMC6462 Datasheet; ComponentLink2URL: http://www.national.com/ds/LM/LMC6462.pdf; ComponentLink3Description: LMC6462 Web Page; ComponentLink3URL: http://www.national.com/pf/LM/LMC6462.html; ComponentLink4Description: M08A Package Page; ComponentLink4URL: http://www.national.com/packaging/folders/m08a.html
footprint M08A_N (SOIC, 8-Leads, Body 4.9x3.9mm, Pitch 1.27mm, IPC Medium Density)
footprint M08A_L (SOIC, 8-Leads, Body 4.9x3.9mm, Pitch 1.27mm, IPC High Density)
footprint M08A_M (SOIC, 8-Leads, Body 4.9x3.9mm, Pitch 1.27mm, IPC Low Density)
pins on every part: 4 V- (power), 8 V+ (power)
part A pins: 1 OUTA (out), 2 INA- (in), 3 INA+ (in)
part B pins: 5 INB+ (in), 6 INB- (in), 7 OUTB (out)

## LMC6462AIMX
designator U?
Dual Micropower, Rail-to-Rail Input and Output CMOS Operational Amplifier, 8-pin Narrow SOIC; PartNumber: LMC6462AIMX; Manufacturer: National Semiconductor; PackageTopMarking: NSZXTT*LMC64*62AIM; PowerWise: N; CompType: Amplifiers; High-Reliability: Y; DatasheetVersion: Feb-2004; PackageVersion: revM, May-2009; PackageReference: M08A; PackageDescription: SOIC Narrow, 4.9 x 3.9 x 1.45mm, 8 Lead, 1.27mm Pitch; RoHS: N; PinCount: 8; Code_JEDEC: MS-012-AA; Code_IPC: SOIC127P600-8; ComponentLink1Description: Manufacturer URL; ComponentLink1URL: http://www.national.com/; ComponentLink2Description: LMC6462 Datasheet; ComponentLink2URL: http://www.national.com/ds/LM/LMC6462.pdf; ComponentLink3Description: LMC6462 Web Page; ComponentLink3URL: http://www.national.com/pf/LM/LMC6462.html; ComponentLink4Description: M08A Package Page; ComponentLink4URL: http://www.national.com/packaging/folders/m08a.html
footprint M08A_N (SOIC, 8-Leads, Body 4.9x3.9mm, Pitch 1.27mm, IPC Medium Density)
footprint M08A_L (SOIC, 8-Leads, Body 4.9x3.9mm, Pitch 1.27mm, IPC High Density)
footprint M08A_M (SOIC, 8-Leads, Body 4.9x3.9mm, Pitch 1.27mm, IPC Low Density)
pins on every part: 4 V- (power), 8 V+ (power)
part A pins: 1 OUTA (out), 2 INA- (in), 3 INA+ (in)
part B pins: 5 INB+ (in), 6 INB- (in), 7 OUTB (out)

## LMC6462AIN
designator U?
Dual Micropower, Rail-to-Rail Input and Output CMOS Operational Amplifier, 8-pin MDIP; PartNumber: LMC6462AIN; Manufacturer: National Semiconductor; PackageTopMarking: NSUZXYTTE#*LMC6462*AIN; PowerWise: N; CompType: Amplifiers; High-Reliability: Y; DatasheetVersion: Feb-2004; PackageVersion: revG, May-2006; PackageReference: N08E; PackageDescription: MDIP, .365 x .250 x .130in, 8 Lead, .100in Pitch; RoHS: N; PinCount: 8; Code_JEDEC: MS-001-BA; ComponentLink1Description: Manufacturer URL; ComponentLink1URL: http://www.national.com/; ComponentLink2Description: LMC6462 Datasheet; ComponentLink2URL: http://www.national.com/ds/LM/LMC6462.pdf; ComponentLink3Description: LMC6462 Web Page; ComponentLink3URL: http://www.national.com/pf/LM/LMC6462.html; ComponentLink4Description: N08E Package Page; ComponentLink4URL: http://www.national.com/packaging/folders/n08e.html
footprint N08E (DIP, 8-Leads, Row Spacing 7.62mm, Pitch 2.54mm, Body 9.91x6.35mm)
pins on every part: 4 V- (power), 8 V+ (power)
part A pins: 1 OUTA (out), 2 INA- (in), 3 INA+ (in)
part B pins: 5 INB+ (in), 6 INB- (in), 7 OUTB (out)

## LMC6462BIM
designator U?
Dual Micropower, Rail-to-Rail Input and Output CMOS Operational Amplifier, 8-pin Narrow SOIC; PartNumber: LMC6462BIM; Manufacturer: National Semiconductor; PackageTopMarking: NSZXTT*LMC64*62BIM; PowerWise: N; CompType: Amplifiers; High-Reliability: Y; DatasheetVersion: Feb-2004; PackageVersion: revM, May-2009; PackageReference: M08A; PackageDescription: SOIC Narrow, 4.9 x 3.9 x 1.45mm, 8 Lead, 1.27mm Pitch; RoHS: N; PinCount: 8; Code_JEDEC: MS-012-AA; Code_IPC: SOIC127P600-8; ComponentLink1Description: Manufacturer URL; ComponentLink1URL: http://www.national.com/; ComponentLink2Description: LMC6462 Datasheet; ComponentLink2URL: http://www.national.com/ds/LM/LMC6462.pdf; ComponentLink3Description: LMC6462 Web Page; ComponentLink3URL: http://www.national.com/pf/LM/LMC6462.html; ComponentLink4Description: M08A Package Page; ComponentLink4URL: http://www.national.com/packaging/folders/m08a.html
footprint M08A_N (SOIC, 8-Leads, Body 4.9x3.9mm, Pitch 1.27mm, IPC Medium Density)
footprint M08A_L (SOIC, 8-Leads, Body 4.9x3.9mm, Pitch 1.27mm, IPC High Density)
footprint M08A_M (SOIC, 8-Leads, Body 4.9x3.9mm, Pitch 1.27mm, IPC Low Density)
pins on every part: 4 V- (power), 8 V+ (power)
part A pins: 1 OUTA (out), 2 INA- (in), 3 INA+ (in)
part B pins: 5 INB+ (in), 6 INB- (in), 7 OUTB (out)

## LMC6462BIM/NOPB
designator U?
Dual Micropower, Rail-to-Rail Input and Output CMOS Operational Amplifier, 8-pin Narrow SOIC, Pb-Free; PartNumber: LMC6462BIM/NOPB; Manufacturer: National Semiconductor; PackageTopMarking: NSZXTT*LMC64*62BIM; PowerWise: N; CompType: Amplifiers; High-Reliability: Y; DatasheetVersion: Feb-2004; PackageVersion: revM, May-2009; PackageReference: M08A; PackageDescription: SOIC Narrow, 4.9 x 3.9 x 1.45mm, 8 Lead, 1.27mm Pitch; RoHS: Y; PinCount: 8; Code_JEDEC: MS-012-AA; Code_IPC: SOIC127P600-8; ComponentLink1Description: Manufacturer URL; ComponentLink1URL: http://www.national.com/; ComponentLink2Description: LMC6462 Datasheet; ComponentLink2URL: http://www.national.com/ds/LM/LMC6462.pdf; ComponentLink3Description: LMC6462 Web Page; ComponentLink3URL: http://www.national.com/pf/LM/LMC6462.html; ComponentLink4Description: M08A Package Page; ComponentLink4URL: http://www.national.com/packaging/folders/m08a.html
footprint M08A_N (SOIC, 8-Leads, Body 4.9x3.9mm, Pitch 1.27mm, IPC Medium Density)
footprint M08A_L (SOIC, 8-Leads, Body 4.9x3.9mm, Pitch 1.27mm, IPC High Density)
footprint M08A_M (SOIC, 8-Leads, Body 4.9x3.9mm, Pitch 1.27mm, IPC Low Density)
pins on every part: 4 V- (power), 8 V+ (power)
part A pins: 1 OUTA (out), 2 INA- (in), 3 INA+ (in)
part B pins: 5 INB+ (in), 6 INB- (in), 7 OUTB (out)

## LMC6462BIMX
designator U?
Dual Micropower, Rail-to-Rail Input and Output CMOS Operational Amplifier, 8-pin Narrow SOIC; PartNumber: LMC6462BIMX; Manufacturer: National Semiconductor; PackageTopMarking: NSZXTT*LMC64*62BIM; PowerWise: N; CompType: Amplifiers; High-Reliability: Y; DatasheetVersion: Feb-2004; PackageVersion: revM, May-2009; PackageReference: M08A; PackageDescription: SOIC Narrow, 4.9 x 3.9 x 1.45mm, 8 Lead, 1.27mm Pitch; RoHS: N; PinCount: 8; Code_JEDEC: MS-012-AA; Code_IPC: SOIC127P600-8; ComponentLink1Description: Manufacturer URL; ComponentLink1URL: http://www.national.com/; ComponentLink2Description: LMC6462 Datasheet; ComponentLink2URL: http://www.national.com/ds/LM/LMC6462.pdf; ComponentLink3Description: LMC6462 Web Page; ComponentLink3URL: http://www.national.com/pf/LM/LMC6462.html; ComponentLink4Description: M08A Package Page; ComponentLink4URL: http://www.national.com/packaging/folders/m08a.html
footprint M08A_N (SOIC, 8-Leads, Body 4.9x3.9mm, Pitch 1.27mm, IPC Medium Density)
footprint M08A_L (SOIC, 8-Leads, Body 4.9x3.9mm, Pitch 1.27mm, IPC High Density)
footprint M08A_M (SOIC, 8-Leads, Body 4.9x3.9mm, Pitch 1.27mm, IPC Low Density)
pins on every part: 4 V- (power), 8 V+ (power)
part A pins: 1 OUTA (out), 2 INA- (in), 3 INA+ (in)
part B pins: 5 INB+ (in), 6 INB- (in), 7 OUTB (out)

## LMC6462BIN
designator U?
Dual Micropower, Rail-to-Rail Input and Output CMOS Operational Amplifier, 8-pin MDIP; PartNumber: LMC6462BIN; Manufacturer: National Semiconductor; PackageTopMarking: NSUZXYTTE#*LMC6462*BIN; PowerWise: N; CompType: Amplifiers; High-Reliability: Y; DatasheetVersion: Feb-2004; PackageVersion: revG, May-2006; PackageReference: N08E; PackageDescription: MDIP, .365 x .250 x .130in, 8 Lead, .100in Pitch; RoHS: N; PinCount: 8; Code_JEDEC: MS-001-BA; ComponentLink1Description: Manufacturer URL; ComponentLink1URL: http://www.national.com/; ComponentLink2Description: LMC6462 Datasheet; ComponentLink2URL: http://www.national.com/ds/LM/LMC6462.pdf; ComponentLink3Description: LMC6462 Web Page; ComponentLink3URL: http://www.national.com/pf/LM/LMC6462.html; ComponentLink4Description: N08E Package Page; ComponentLink4URL: http://www.national.com/packaging/folders/n08e.html
footprint N08E (DIP, 8-Leads, Row Spacing 7.62mm, Pitch 2.54mm, Body 9.91x6.35mm)
pins on every part: 4 V- (power), 8 V+ (power)
part A pins: 1 OUTA (out), 2 INA- (in), 3 INA+ (in)
part B pins: 5 INB+ (in), 6 INB- (in), 7 OUTB (out)